# EAGLE library part ESP-01 (library ESP-01)
ESP-01 Check availability <https://pricing.snapeda.com/parts/ESP-01/AI-Thinker/view-part?ref=eda>
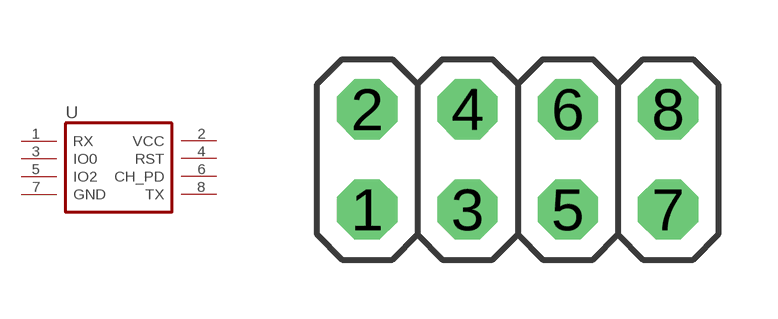
[diagram p0: symbol with the pads of ESP-01; footprint ESP-01]

Designator prefix -

## ESP-01 (Availability: Not in stock; Description: ESP-01M ESP8266 DIP Adapter series Transceiver; 802.11 b/g/n (Wi-Fi, WiFi, WLAN) Evaluation Board; MF: AI-Thinker; MP: ESP-01; Package: Non-Standard AI-Thinker; Price: None)  [ESP-01]
1  RX
2  VCC
3  IO0
4  RST
5  IO2
6  CH_PD
7  GND
8  TX

## Footprint ESP-01 (pad centres in mm)
PIN HEADER
drill 1.016 octagon: 1 -3.81,-1.27; 2 -3.81,1.27; 3 -1.27,-1.27; 4 -1.27,1.27; 5 1.27,-1.27; 6 1.27,1.27; 7 3.81,-1.27; 8 3.81,1.27